# EAGLE library part PCA82C250 (library micro-philips)
CAN CONTROLLER INTERFACE
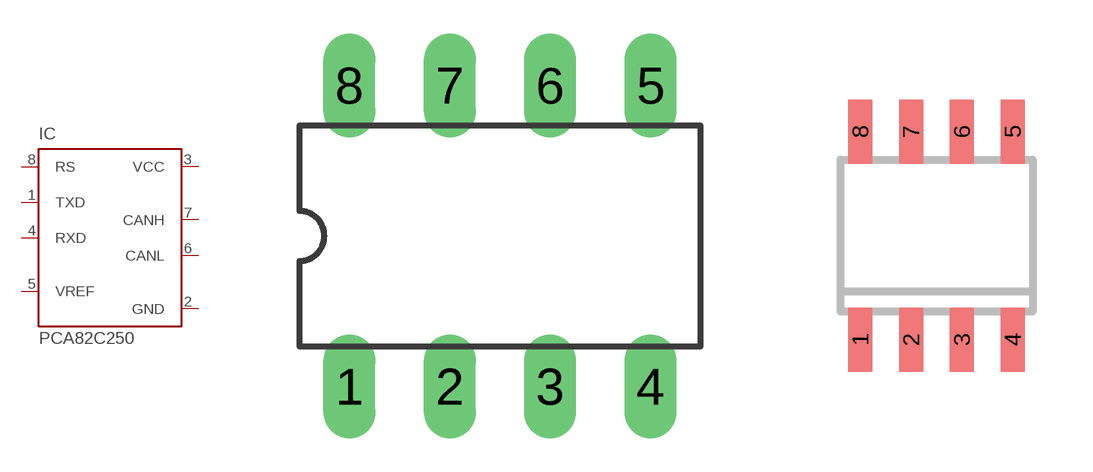
[diagram p32: symbol with the pads of DIL08; footprints DIL08, SO8]

Designator prefix IC

## PCA82C250 (OC_FARNELL: 3692358; OC_NEWARK: unknown)  [DIL08]
1  TXD  in
2  GND  pwr
3  VCC  pwr
4  RXD  out
5  VREF  out
6  CANL
7  CANH
8  RS  in

## PCA82C250T (OC_FARNELL: 1085275; OC_NEWARK: unknown)  [SO8]
Pads as for DIL08

## Footprint DIL08 (pad centres in mm)
Dual In Line
drill 0.813 long: 1 -3.81,-3.81; 2 -1.27,-3.81; 3 1.27,-3.81; 4 3.81,-3.81; 5 3.81,3.81; 6 1.27,3.81; 7 -1.27,3.81; 8 -3.81,3.81

## Footprint SO8 (pad centres in mm)
SO8: plastic small outline package; 8 leads; body width 3.9 mm Source: http://www.nxp.com/documents/data_sheet/PCA82C250.pdf
smd 0.6 x 1.6: 1 -1.905,-2.6; 2 -0.635,-2.6; 3 0.635,-2.6; 4 1.905,-2.6; 5 1.905,2.6; 6 0.635,2.6; 7 -0.635,2.6; 8 -1.905,2.6